# EAGLE library part MP2148GQD-Z (library ICs)
Buck Switching Regulator IC Positive Adjustable 0.6V 1 Output 1A 6-VFDFN
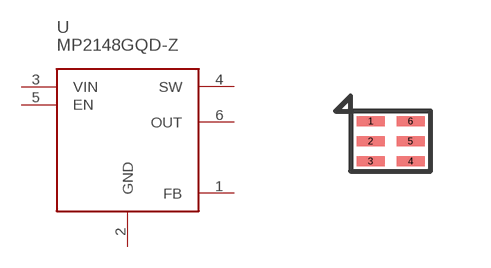
[diagram p293: symbol with the pads of QFN6; footprint QFN6]

Designator prefix U

## MP2148GQD-Z (DIGIKEY: 1589-1564-1-ND; HEIGHT: 1; PRICE_PER: 1.33; VALUE: MP2148)  [QFN6]
1  FB
2  GND
3  VIN
4  SW
5  EN
6  OUT

## Footprint QFN6 (pad centres in mm)
smd 0.7 x 0.25: 1 -0.5,0.5; 2 -0.5,0; 3 -0.5,-0.5; 4 0.5,-0.5; 5 0.5,0; 6 0.5,0.5